# Altium integrated library LM358.IntLib: 1 symbol
Pins are listed as number, name and electrical type; pins without a type are passive.

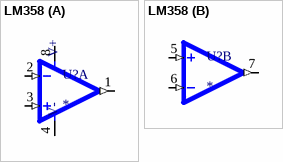
[diagram p0: symbol LM358]

## LM358
designator U?
Op Amp Dual GP Â±16V/32V 8-Pin SOIC Tube; MF: Texas Instruments; MP: LM358; SnapEDA_Link: https://www.snapeda.com/parts/LM358/Texas+Instruments/view-part/?ref=snap; Check_prices: https://www.snapeda.com/parts/LM358/Texas+Instruments/view-part/?ref=eda; Value: *; Purchase-URL: https://pricing.snapeda.com/search/part/LM358/?ref=eda; Availability: In Stock; Price: None; Package: None
footprint SOIC8_150MIL
part A pins: 1 OUT (out), 2 -IN (in), 3 +IN (in), 4 V- (power), 8 V+ (power)
part B pins: 5 +IN (in), 6 -IN (in), 7 OUT (out)